# Altium footprint library Footprints.PcbLib: 96 footprints (part 5 of 6)
Each footprint in its own frame and in the unit in brackets; x right, y up, seen from the top. Pads: shape width x height; smd on the part's side, far side on the other; paste and mask are expansions set on the pad; w line width, h text height; cw(c..) or ccw(c..) is an arc to the next point about the centre after c.
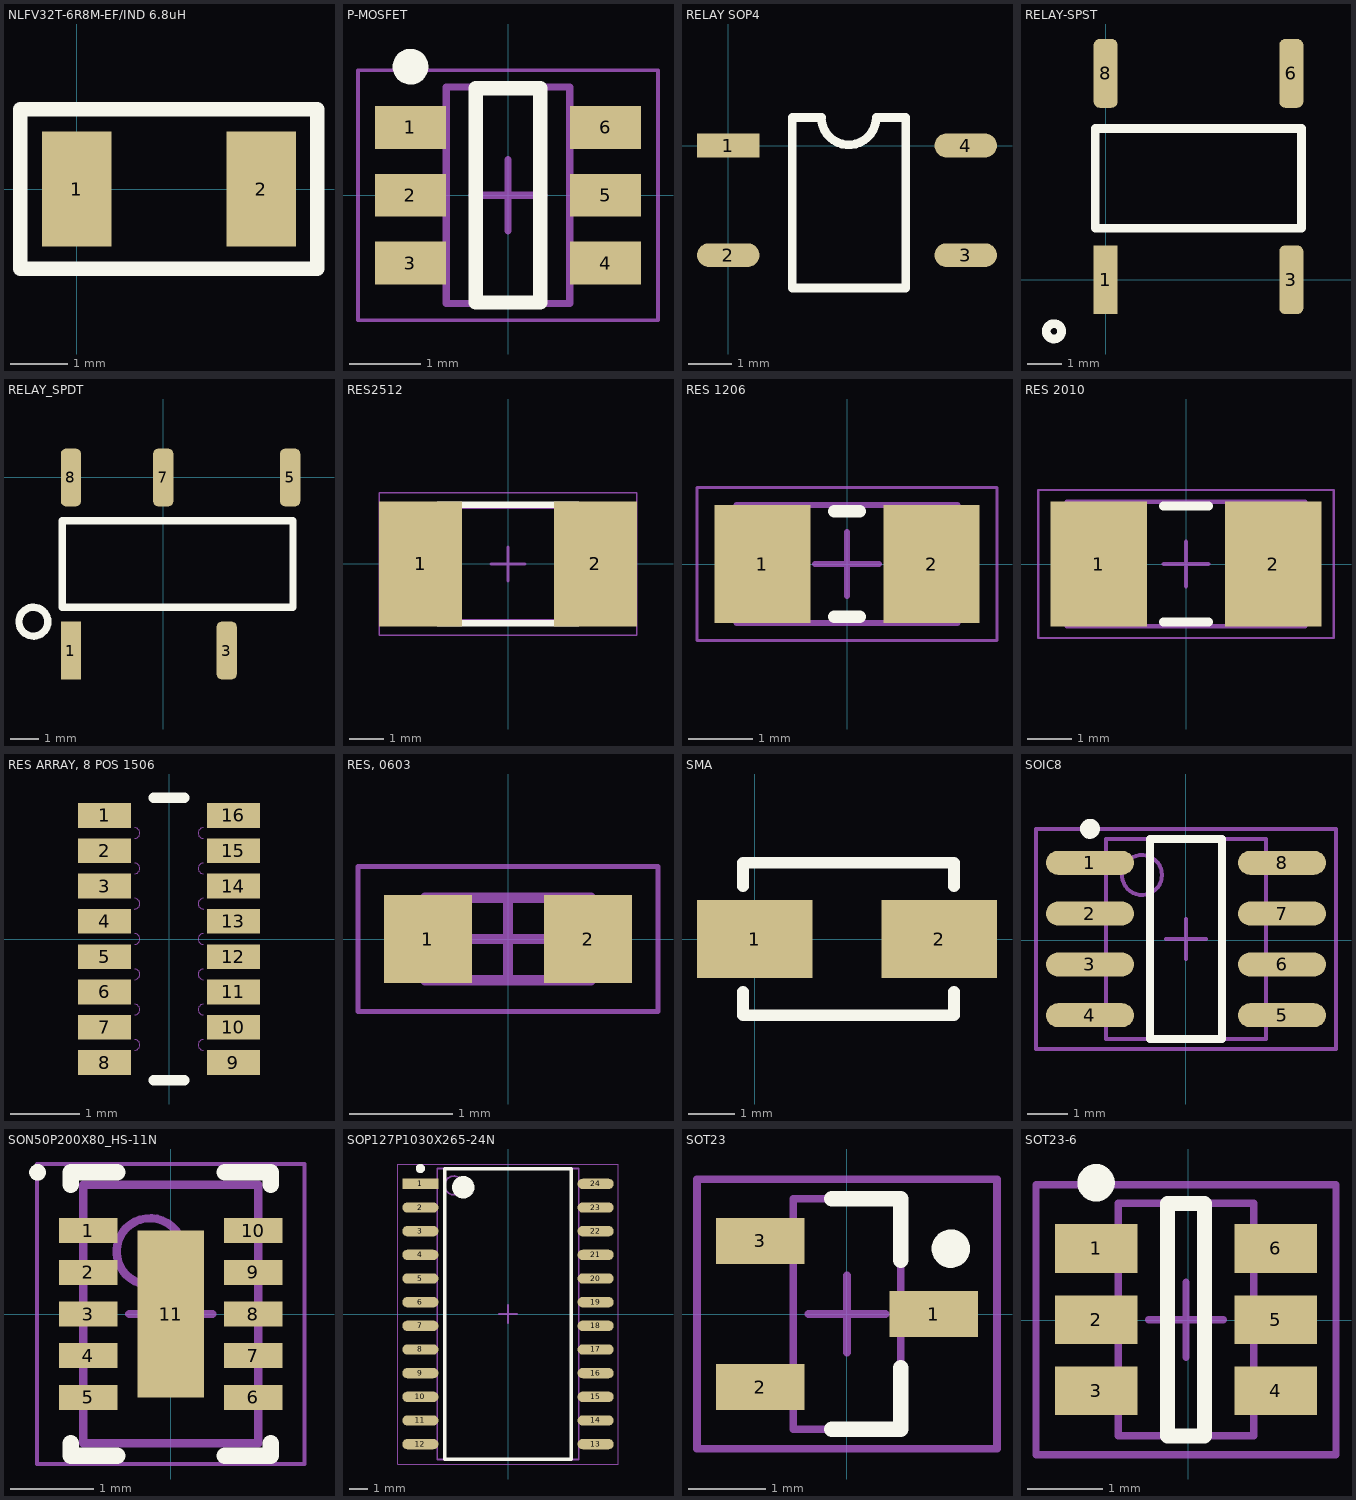
[diagram p4: the footprints below, top view; thin cyan lines are the x and y axes]

## NLFV32T-6R8M-EF/IND 6.8uH [mm]
pads (2):
  rect 1.2x2 smd: 1(0,0) 2(3.2,0)
Top Overlay:
  lines w0.254: -0.98,-1.38 4.17,-1.38 4.17,1.38 -0.98,1.38 -0.98,-1.38
3D body: height 2.2, standoff 0, extent -0.979,-1.379 4.169,1.379

## P-MOSFET [mm] "SOT23, 6-Leads, Body 2.93x2.80mm, Pitch 0.95mm, IPC Medium Density"
height 1.25
pads (6):
  rect 1x0.6 smd mask+0.076: 1(-1.365,0.95) 2(-1.365,0) 3(-1.365,-0.95) 4(1.365,-0.95) 5(1.365,0) 6(1.365,0.95)
Top Overlay:
  circle w0.25: c-1.365,1.8 r0.125
  lines w0.2: -0.45,-1.5 0.45,-1.5 0.45,1.5 -0.45,1.5 -0.45,-1.5
Mechanical 13:
  lines w0.1: -0.865,-1.515 -0.865,1.515 0.865,1.515 0.865,-1.515 -0.865,-1.515
Mechanical 15:
  lines w0.05: -2.1,-1.75 -2.1,1.75 2.1,1.75 2.1,-1.75 -2.1,-1.75
  lines w0.1: -0.5,0 0.5,0 ; 0,-0.5 0,0.5
3D body "P-MOSFET.step": height 1.25, standoff 0, extent -1.5,-1.515 1.5,1.515

## RELAY SOP4 [mm]
pads (4):
  rect 1.45x0.55 smd: 1(0,0)
  oval 1.45x0.55 smd: 2(0,-2.54) 3(5.5,-2.54) 4(5.5,0)
Top Overlay:
  lines w0.2: 2.155,0.65 ccw(c2.79,0.65) 3.425,0.65 ; 2.165,0.65 1.485,0.65 1.485,-3.3 4.115,-3.3 4.115,0.65 3.475,0.65
3D body "User Library-SOP-4.step": height 2.02, standoff -0.02, extent -0.73,-3.3 6.13,0.7

## RELAY-SPST [mm]
pads (4):
  rect 0.7x2 smd: 1(0,0)
  rrect50% 0.7x2 smd: 3(5.4,0) 6(5.4,6) 8(0,6)
Top Overlay:
  circle w0.254: c-1.5,-1.5 r0.224
  lines w0.254: -0.3,1.5 -0.3,4.4 5.7,4.4 5.7,1.5 -0.3,1.5
3D body: height 5.65, standoff 0, extent -0.299,1.501 5.699,4.399

## RELAY_SPDT [mm]
pads (5):
  rect 0.7x2 smd: 1(-3.2,-6)
  rrect50% 0.7x2 smd: 3(2.2,-6) 5(4.4,0) 7(0,0) 8(-3.2,0)
Top Overlay:
  circle w0.254: c-4.5,-5 r0.5
  lines w0.254: -3.5,-4.5 4.5,-4.5 4.5,-1.5 -3.5,-1.5 -3.5,-2.25 -3.5,-3.75 -3.5,-4.5
3D body: height 5.65, standoff 0, extent -3.499,-4.499 4.499,-1.501

## RES2512 [mm]
height 0.65
pads (2):
  rect 2.45x3.7 smd: 1(-2.575,0) 2(2.575,0)
Top Overlay:
  lines w0.2: -2.05,-1.75 2.05,-1.75 ; -2.05,1.75 2.05,1.75
Mechanical 13:
  lines w0.1: -3.175,-1.675 -3.175,1.675 3.175,1.675 3.175,-1.675 -3.175,-1.675
Mechanical 15:
  lines w0.05: -3.8,-2.1 -3.8,2.1 3.8,2.1 3.8,-2.1 -3.8,-2.1
  lines w0.1: -0.5,0 0.5,0 ; 0,-0.5 0,0.5
3D body "RES2512.step": height 0.65, standoff 0, extent -3.175,-1.675 3.175,1.675

## RES 1206 [mm] "Chip Resistor, 2-Leads, Body 3.20x1.60mm, IPC Medium Density"
height 0.64
pads (2):
  rect 1.5x1.85 smd: 1(-1.325,0) 2(1.325,0)
Top Overlay:
  lines w0.2: -0.2,-0.825 0.2,-0.825 ; -0.2,0.825 0.2,0.825
Mechanical 13:
  lines w0.1: -1.725,-0.925 -1.725,0.925 1.725,0.925 1.725,-0.925 -1.725,-0.925
Mechanical 15:
  lines w0.05: -2.35,-1.2 -2.35,1.2 2.35,1.2 2.35,-1.2 -2.35,-1.2
  lines w0.1: -0.5,0 0.5,0 ; 0,-0.5 0,0.5
3D body "RES 1206.step": height 0.64, standoff 0, extent -1.725,-0.925 1.725,0.925

## RES 2010 [mm] "Chip Resistor, 2-Leads, Body 5.08x2.54mm, IPC Medium Density"
height 1.04
pads (2):
  rect 2.15x2.8 smd: 1(-1.95,0) 2(1.95,0)
Top Overlay:
  lines w0.2: -0.5,-1.3 0.5,-1.3 ; -0.5,1.3 0.5,1.3
Mechanical 13:
  lines w0.1: -2.665,-1.395 -2.665,1.395 2.665,1.395 2.665,-1.395 -2.665,-1.395
Mechanical 15:
  lines w0.05: -3.3,-1.65 -3.3,1.65 3.3,1.65 3.3,-1.65 -3.3,-1.65
  lines w0.1: -0.5,0 0.5,0 ; 0,-0.5 0,0.5
3D body "RES 2010.step": height 1.04, standoff 0, extent -2.665,-1.395 2.665,1.395

## RES ARRAY, 8 POS 1506 [mil]
pads (16):
  rect 30x14 smd: 1(-36.5,70) 2(-36.5,50) 3(-36.5,30) 4(-36.5,10) 5(-36.5,-10) 6(-36.5,-30) 7(-36.5,-50) 8(-36.5,-70) 9(36.5,-70) 10(36.5,-50) 11(36.5,-30) 12(36.5,-10) 13(36.5,10) 14(36.5,30) 15(36.5,50) 16(36.5,70)
Top Overlay:
  lines w6: -8.75,-80 8.75,-80 ; -8.75,80 8.75,80
Mechanical 13:
  lines w0: -19.5,-63 ccw(c-19.5,-60) -19.5,-57 ; -19.5,-43 ccw(c-19.5,-40) -19.5,-37 ; -19.5,-23 ccw(c-19.5,-20) -19.5,-17 ; -19.5,-3 ccw(c-19.5,0) -19.5,3 ; -19.5,17 ccw(c-19.5,20) -19.5,23 ; -19.5,37 ccw(c-19.5,40) -19.5,43 ; -19.5,57 ccw(c-19.5,60) -19.5,63 ; 19.5,-63 cw(c19.5,-60) 19.5,-57 ; 19.5,-43 cw(c19.5,-40) 19.5,-37 ; 19.5,-23 cw(c19.5,-20) 19.5,-17 ; 19.5,-3 cw(c19.5,0) 19.5,3 ; 19.5,17 cw(c19.5,20) 19.5,23 ; 19.5,37 cw(c19.5,40) 19.5,43 ; 19.5,57 cw(c19.5,60) 19.5,63
3D body "EXB2HV.stp": height 18.03, standoff 0, extent -20.51,-77.01 20.51,77.01

## RES, 0603 [mm] "Chip Resistor, 2-Leads, Body 1.60x0.80mm, IPC Medium Density"
height 0.55
pads (2):
  rect 0.85x0.85 smd: 1(-0.775,0) 2(0.775,0)
Mechanical 13:
  lines w0.1: -0.8,-0.4 0.8,-0.4 0.8,0.4 -0.8,0.4 -0.8,-0.4
Mechanical 15:
  lines w0.05: -1.45,-0.7 1.45,-0.7 1.45,0.7 -1.45,0.7 -1.45,-0.7
  lines w0.1: -0.4,0 0.4,0 ; 0,-0.4 0,0.4
3D body "RESC1608X06N.step": height 0.55, standoff 0, extent -0.8,-0.4 0.8,0.4

## SMA [mm]
pads (2):
  rect 2.5x1.7 smd: 1(0,0) 2(4,0)
Top Overlay:
  lines w0.254: -0.254,-1.143 -0.254,-1.651 4.318,-1.651 4.318,-1.143 ; -0.254,1.143 -0.254,1.651 4.318,1.651 4.318,1.143

## SOIC8 [mm]
pads (8):
  oval 2.2x0.6 smd: 1(-2.394,1.935) 2(-2.394,0.665) 3(-2.394,-0.605) 4(-2.394,-1.875) 5(2.406,-1.875) 6(2.406,-0.605) 7(2.406,0.665) 8(2.406,1.935)
Top Overlay:
  circle w0.25: c-2.394,2.785 r0.125
  lines w0.2: -0.894,-2.47 -0.894,2.53 0.906,2.53 0.906,-2.47 -0.894,-2.47
Mechanical 13:
  circle w0.1: c-1.094,1.63 r0.5
  lines w0.1: -1.994,-2.47 -1.994,2.53 2.006,2.53 2.006,-2.47 -1.994,-2.47
Mechanical 15:
  lines w0.1: -0.494,0.03 0.506,0.03 ; 0.006,-0.47 0.006,0.53 ; -3.744,-2.72 -3.744,2.78 3.756,2.78 3.756,-2.72 -3.744,-2.72
3D body: height 1.75, standoff 0, extent -1.994,-2.47 2.006,2.53

## SON50P200X80_HS-11N [mm] "SON, 10-Leads, Body 3.00x2.00mm, Pitch 0.50mm, Thermal Pad 2.00x0.69mm, IPC Medium Density"
height 0.8
pads (11):
  rect 0.7x0.3 smd: 1(-0.99,1) 2(-0.99,0.5) 3(-0.99,0) 4(-0.99,-0.5) 5(-0.99,-1) 6(0.99,-1) 7(0.99,-0.5) 8(0.99,0) 9(0.99,0.5) 10(0.99,1)
  rect 0.8x2 smd: 11(0,0)
Top Overlay:
  circle w0.1: c-1.6,1.7 r0.05
  lines w0.2: -1.2,-1.55 -1.2,-1.7 -0.645,-1.7 ; -1.2,1.55 -1.2,1.7 -0.645,1.7 ; 0.645,-1.7 1.2,-1.7 1.2,-1.55 ; 0.645,1.7 1.2,1.7 1.2,1.55
Mechanical 13:
  circle w0.1: c-0.25,0.75 r0.4
  lines w0.1: -1.05,-1.55 1.05,-1.55 1.05,1.55 -1.05,1.55 -1.05,-1.55
Mechanical 15:
  lines w0.05: -1.605,-1.8 1.605,-1.8 1.605,1.8 -1.605,1.8 -1.605,-1.8
  lines w0.1: -0.5,0 0.5,0 ; 0,-0.5 0,0.5
3D body "SON50P200X80_HS-11N.step": height 0.8, standoff 0, extent -1.051,-1.55 1.051,1.55

## SOP127P1030X265-24N [mm] "SOP, 24-Leads, Body 15.40x7.50mm, Pitch 1.27mm, IPC Medium Density"
height 2.65
pads (24):
  rect 1.95x0.55 smd: 1(-4.7,6.985)
  oval 1.95x0.55 smd: 2(-4.7,5.715) 3(-4.7,4.445) 4(-4.7,3.175) 5(-4.7,1.905) 6(-4.7,0.635) 7(-4.7,-0.635) 8(-4.7,-1.905) 9(-4.7,-3.175) 10(-4.7,-4.445) 11(-4.7,-5.715) 12(-4.7,-6.985) 13(4.7,-6.985) 14(4.7,-5.715) 15(4.7,-4.445) 16(4.7,-3.175) 17(4.7,-1.905) 18(4.7,-0.635) 19(4.7,0.635) 20(4.7,1.905) 21(4.7,3.175) 22(4.7,4.445) 23(4.7,5.715) 24(4.7,6.985)
Top Overlay:
  circle w0.6: c-2.4,6.8 r0.3
  circle w0.25: c-4.7,7.81 r0.125
  lines w0.2: -3.4,-7.8 3.4,-7.8 3.4,7.8 -3.4,7.8 -3.4,-7.8
Mechanical 13:
  circle w0.1: c-2.9,6.9 r0.5
  lines w0.1: -3.8,-7.8 3.8,-7.8 3.8,7.8 -3.8,7.8 -3.8,-7.8
Mechanical 15:
  lines w0.05: -5.925,-8.05 5.925,-8.05 5.925,8.05 -5.925,8.05 -5.925,-8.05
  lines w0.1: -0.5,0 0.5,0 ; 0,-0.5 0,0.5
3D body "SOP127P1030X265-24N.step": height 2.65, standoff 0, extent -5.15,-7.8 5.15,7.8

## SOT23 [mm] "SOT23, 3-Leads, Body 2.9x1.3mm, Pitch 0.95mm, Lead Span 2.3mm - Reverse Pinning, IPC Medium Density"
height 1.1
pads (3):
  rect 1.15x0.6 smd: 1(1.125,0) 2(-1.125,-0.95) 3(-1.125,0.95)
Top Overlay:
  circle w0.25: c1.35,0.85 r0.125
  lines w0.2: -0.2,-1.5 0.7,-1.5 0.7,-0.7 ; -0.2,1.5 0.7,1.5 0.7,0.7
Mechanical 13:
  lines w0.1: -0.7,-1.5 0.7,-1.5 0.7,1.5 -0.7,1.5 -0.7,-1.5
Mechanical 15:
  lines w0.1: -0.5,0 0.5,0 ; 0,-0.5 0,0.5 ; -1.95,-1.75 1.95,-1.75 1.95,1.75 -1.95,1.75 -1.95,-1.75
3D body: height 1.1, standoff 0, extent -0.7,-1.5 0.7,1.5

## SOT23-6 [mm]
pads (6):
  rect 1.1x0.65 smd: 1(-1.229,0.955) 2(-1.229,0.005) 3(-1.229,-0.945) 4(1.171,-0.945) 5(1.171,0.005) 6(1.171,0.955)
Top Overlay:
  circle w0.25: c-1.229,1.83 r0.125
  lines w0.2: -0.279,-1.545 0.221,-1.545 0.221,1.555 -0.279,1.555 -0.279,-1.545
Mechanical 13:
  lines w0.1: -0.929,-1.545 -0.929,1.555 0.871,1.555 0.871,-1.545 -0.929,-1.545
Mechanical 15:
  lines w0.1: -0.529,0.005 0.471,0.005 ; -0.029,-0.495 -0.029,0.505 ; -2.029,-1.795 -2.029,1.805 1.971,1.805 1.971,-1.795 -2.029,-1.795
3D body: height 1.45, standoff 0, extent -0.929,-1.545 0.871,1.555